# Altium schematic symbol library Q_NFET_3pin_134.Schlib: 1 symbol
Pins are listed as number, name and electrical type; pins without a type are passive.

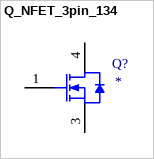
[diagram p0: symbol Q_NFET_3pin_134]

## Q_NFET_3pin_134
designator Q?
NFET
pins: 1 G, 3 S, 4 D